# Altium schematic symbol library Network.SchLib: 3 symbols
Pins are listed as number, name and electrical type; pins without a type are passive.

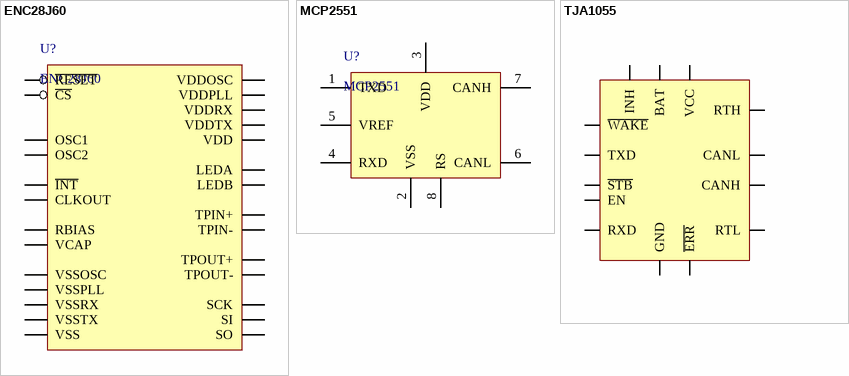
[diagram p0: symbols ENC28J60 to TJA1055]

## ENC28J60
designator U?
Stand-Alone Ethernet Controller with SPI Interface
footprint TSSOP28
footprint DIP28
pins: 1 VCAP, 2 VSS, 3 CLKOUT, 4 ~{INT}, 6 SO, 7 SI, 8 SCK, 9 ~{CS}, 10 ~{RESET}, 11 VSSRX, 12 TPIN-, 13 TPIN+, 14 RBIAS, 15 VDDTX, 16 TPOUT-, 17 TPOUT+, 18 VSSTX, 19 VDDRX, 20 VDDPLL, 21 VSSPLL, 22 VSSOSC, 23 OSC1, 24 OSC2, 25 VDDOSC, 26 LEDB, 27 LEDA, 28 VDD

## MCP2551
designator U?
High-Speed CAN Transceiver
footprint DIP8
footprint TSSOP8
pins: 1 TXD, 2 VSS, 3 VDD, 4 RXD, 5 VREF, 6 CANL, 7 CANH, 8 RS

## TJA1055
designator J?
Enhanced fault-tolerant CAN transceiver
footprint TSSOP14
pins: 1 INH, 2 TXD, 3 RXD, 4 ~{ERR}, 5 ~{STB}, 6 EN, 7 ~{WAKE}, 8 RTH, 9 RTL, 10 VCC, 11 CANH, 12 CANL, 13 GND, 14 BAT